# Altium schematic symbol library WE-ASI.SchLib: 13 symbols
Pins are listed as number, name and electrical type; pins without a type are passive.

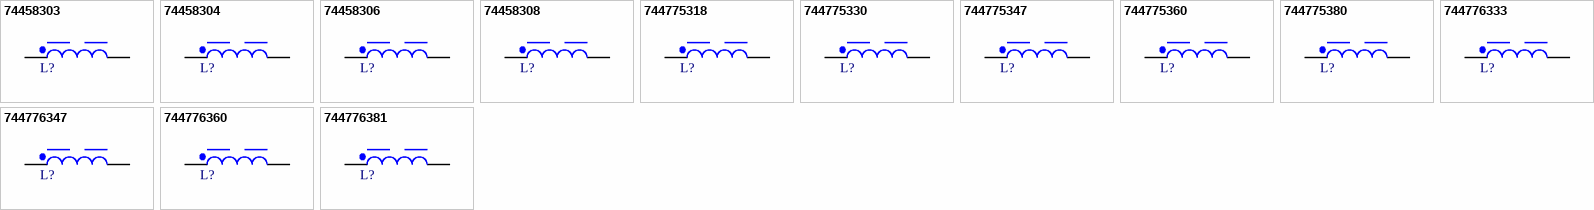
[diagram p0: symbols 74458303 to 744776381]

## 74458303
designator L?, comment 3mH, 0.5A  (value not drawn)
WE-ASI SMT Wire Wound Inductor, Actuator - Type L, 3mH, 0.5A, 3.5Ω; Manufacturer Part Number: 74458303; Manufacturer: Wurth Elektronik; Capacitance: 21pF; DC Resistance: 2.9Ω; Saturation Current: 1A; Self Resonant Frequency: 630kHz; Category: AS-Interface Inductors; Match Code: WE-ASI; ComponentLink1Description: Website Link; ComponentLink1URL: https://www.we-online.com/redexpert/article/74458303?ad; ComponentLink2Description: Datasheet Link; ComponentLink2URL: https://www.we-online.com/redexpert/spec/74458303?ad; Mount: Surface Mount; Operating Temperature Max: 125°C; Operating Temperature Min: -40°C; Packaging: Tape and Reel; Case/Size Code: Actuator - Type L; Length: 18.54mm; Width: 15.24mm; Height: 12mm; DC Resistance Max: 3.5Ω; Inductance: 3mH; Rated Current: 0.5A
footprint WE-ASI_Actuator - Type L
simulation model L_74458303_3m
pins: 1, 2

## 74458304
designator L?, comment 4.7mH, 0.4A  (value not drawn)
WE-ASI SMT Wire Wound Inductor, Actuator - Type L, 4.7mH, 0.4A, 4.8Ω; Manufacturer Part Number: 74458304; Manufacturer: Wurth Elektronik; Capacitance: 22pF; DC Resistance: 4Ω; Saturation Current: 0.9A; Self Resonant Frequency: 500kHz; Category: AS-Interface Inductors; Match Code: WE-ASI; ComponentLink1Description: Website Link; ComponentLink1URL: https://www.we-online.com/redexpert/article/74458304?ad; ComponentLink2Description: Datasheet Link; ComponentLink2URL: https://www.we-online.com/redexpert/spec/74458304?ad; Mount: Surface Mount; Operating Temperature Max: 125°C; Operating Temperature Min: -40°C; Packaging: Tape and Reel; Case/Size Code: Actuator - Type L; Length: 18.54mm; Width: 15.24mm; Height: 12mm; DC Resistance Max: 4.8Ω; Inductance: 4.7mH; Rated Current: 0.4A
footprint WE-ASI_Actuator - Type L
simulation model L_74458304_4.7m
pins: 1, 2

## 74458306
designator L?, comment 6mH, 0.4A  (value not drawn)
WE-ASI SMT Wire Wound Inductor, Actuator - Type L, 6mH, 0.4A, 6Ω; Manufacturer Part Number: 74458306; Manufacturer: Wurth Elektronik; Capacitance: 20pF; DC Resistance: 5.2Ω; Saturation Current: 0.7A; Self Resonant Frequency: 470kHz; Category: AS-Interface Inductors; Match Code: WE-ASI; ComponentLink1Description: Website Link; ComponentLink1URL: https://www.we-online.com/redexpert/article/74458306?ad; ComponentLink2Description: Datasheet Link; ComponentLink2URL: https://www.we-online.com/redexpert/spec/74458306?ad; Mount: Surface Mount; Operating Temperature Max: 125°C; Operating Temperature Min: -40°C; Packaging: Tape and Reel; Case/Size Code: Actuator - Type L; Length: 18.54mm; Width: 15.24mm; Height: 12mm; DC Resistance Max: 6Ω; Inductance: 6mH; Rated Current: 0.4A
footprint WE-ASI_Actuator - Type L
simulation model L_74458306_6m
pins: 1, 2

## 74458308
designator L?, comment 8mH, 0.35A  (value not drawn)
WE-ASI SMT Wire Wound Inductor, Actuator - Type L, 8mH, 0.35A, 8Ω; Manufacturer Part Number: 74458308; Manufacturer: Wurth Elektronik; Capacitance: 19pF; DC Resistance: 6.8Ω; Saturation Current: 0.6A; Self Resonant Frequency: 410kHz; Category: AS-Interface Inductors; Match Code: WE-ASI; ComponentLink1Description: Website Link; ComponentLink1URL: https://www.we-online.com/redexpert/article/74458308?ad; ComponentLink2Description: Datasheet Link; ComponentLink2URL: https://www.we-online.com/redexpert/spec/74458308?ad; Mount: Surface Mount; Operating Temperature Max: 125°C; Operating Temperature Min: -40°C; Packaging: Tape and Reel; Case/Size Code: Actuator - Type L; Length: 18.54mm; Width: 15.24mm; Height: 12mm; DC Resistance Max: 8Ω; Inductance: 8mH; Rated Current: 0.35A
footprint WE-ASI_Actuator - Type L
simulation model L_74458308_8m
pins: 1, 2

## 744775318
designator L?, comment 18mH, 0.08A  (value not drawn)
WE-ASI SMT Wire Wound Inductor, Sensor, 18mH, 0.08A, 72Ω; Manufacturer Part Number: 744775318; Manufacturer: Wurth Elektronik; Capacitance: 9pF; DC Resistance: 57.7Ω; Saturation Current: 0.05A; Self Resonant Frequency: 400kHz; Category: AS-Interface Inductors; Match Code: WE-ASI; ComponentLink1Description: Website Link; ComponentLink1URL: https://www.we-online.com/redexpert/article/744775318?ad; ComponentLink2Description: Datasheet Link; ComponentLink2URL: https://www.we-online.com/redexpert/spec/744775318?ad; Mount: Surface Mount; Operating Temperature Max: 125°C; Operating Temperature Min: -40°C; Packaging: Tape and Reel; Case/Size Code: Sensor; Length: 8mm; Width: 7mm; Height: 5mm; DC Resistance Max: 72Ω; Inductance: 18mH; Rated Current: 0.08A
footprint WE-ASI_Sensor
simulation model Sensor_744775318_18m
pins: 1, 2

## 744775330
designator L?, comment 3mH, 0.24A  (value not drawn)
WE-ASI SMT Wire Wound Inductor, Sensor, 3mH, 0.24A, 10Ω; Manufacturer Part Number: 744775330; Manufacturer: Wurth Elektronik; Capacitance: 10pF; DC Resistance: 8.2Ω; Saturation Current: 0.12A; Self Resonant Frequency: 900kHz; Category: AS-Interface Inductors; Match Code: WE-ASI; ComponentLink1Description: Website Link; ComponentLink1URL: https://www.we-online.com/redexpert/article/744775330?ad; ComponentLink2Description: Datasheet Link; ComponentLink2URL: https://www.we-online.com/redexpert/spec/744775330?ad; Mount: Surface Mount; Operating Temperature Max: 125°C; Operating Temperature Min: -40°C; Packaging: Tape and Reel; Case/Size Code: Sensor; Length: 8mm; Width: 7mm; Height: 5mm; DC Resistance Max: 10Ω; Inductance: 3mH; Rated Current: 0.24A
footprint WE-ASI_Sensor
simulation model Sensor_744775330_3m
pins: 1, 2

## 744775347
designator L?, comment 4.7mH, 0.2A  (value not drawn)
WE-ASI SMT Wire Wound Inductor, Sensor, 4.7mH, 0.2A, 13.8Ω; Manufacturer Part Number: 744775347; Manufacturer: Wurth Elektronik; Capacitance: 11pF; DC Resistance: 11.5Ω; Saturation Current: 0.1A; Self Resonant Frequency: 700kHz; Category: AS-Interface Inductors; Match Code: WE-ASI; ComponentLink1Description: Website Link; ComponentLink1URL: https://www.we-online.com/redexpert/article/744775347?ad; ComponentLink2Description: Datasheet Link; ComponentLink2URL: https://www.we-online.com/redexpert/spec/744775347?ad; Mount: Surface Mount; Operating Temperature Max: 125°C; Operating Temperature Min: -40°C; Packaging: Tape and Reel; Case/Size Code: Sensor; Length: 8mm; Width: 7mm; Height: 5mm; DC Resistance Max: 13.8Ω; Inductance: 4.7mH; Rated Current: 0.2A
footprint WE-ASI_Sensor
simulation model Sensor_744775347_4.7m
pins: 1, 2

## 744775360
designator L?, comment 6mH, 0.18A  (value not drawn)
WE-ASI SMT Wire Wound Inductor, Sensor, 6mH, 0.18A, 18Ω; Manufacturer Part Number: 744775360; Manufacturer: Wurth Elektronik; Capacitance: 12pF; DC Resistance: 16.7Ω; Saturation Current: 0.09A; Self Resonant Frequency: 600kHz; Category: AS-Interface Inductors; Match Code: WE-ASI; ComponentLink1Description: Website Link; ComponentLink1URL: https://www.we-online.com/redexpert/article/744775360?ad; ComponentLink2Description: Datasheet Link; ComponentLink2URL: https://www.we-online.com/redexpert/spec/744775360?ad; Mount: Surface Mount; Operating Temperature Max: 125°C; Operating Temperature Min: -40°C; Packaging: Tape and Reel; Case/Size Code: Sensor; Length: 8mm; Width: 7mm; Height: 5mm; DC Resistance Max: 18Ω; Inductance: 6mH; Rated Current: 0.18A
footprint WE-ASI_Sensor
simulation model Sensor_744775360_6m
pins: 1, 2

## 744775380
designator L?, comment 8mH, 0.14A  (value not drawn)
WE-ASI SMT Wire Wound Inductor, Sensor, 8mH, 0.14A, 25Ω; Manufacturer Part Number: 744775380; Manufacturer: Wurth Elektronik; Capacitance: 11pF; DC Resistance: 23.3Ω; Saturation Current: 0.09A; Self Resonant Frequency: 700kHz; Category: AS-Interface Inductors; Match Code: WE-ASI; ComponentLink1Description: Website Link; ComponentLink1URL: https://www.we-online.com/redexpert/article/744775380?ad; ComponentLink2Description: Datasheet Link; ComponentLink2URL: https://www.we-online.com/redexpert/spec/744775380?ad; Mount: Surface Mount; Operating Temperature Max: 125°C; Operating Temperature Min: -40°C; Packaging: Tape and Reel; Case/Size Code: Sensor; Length: 8mm; Width: 7mm; Height: 5mm; DC Resistance Max: 25Ω; Inductance: 8mH; Rated Current: 0.14A
footprint WE-ASI_Sensor
simulation model Sensor_744775380_8m
pins: 1, 2

## 744776333
designator L?, comment 3mH, 0.35A  (value not drawn)
WE-ASI SMT Wire Wound Inductor, Actuator - Type M, 3mH, 0.35A, 7Ω; Manufacturer Part Number: 744776333; Manufacturer: Wurth Elektronik; Capacitance: 10pF; DC Resistance: 5.6Ω; Saturation Current: 0.4A; Self Resonant Frequency: 900kHz; Category: AS-Interface Inductors; Match Code: WE-ASI; ComponentLink1Description: Website Link; ComponentLink1URL: https://www.we-online.com/redexpert/article/744776333?ad; ComponentLink2Description: Datasheet Link; ComponentLink2URL: https://www.we-online.com/redexpert/spec/744776333?ad; Mount: Surface Mount; Operating Temperature Max: 125°C; Operating Temperature Min: -40°C; Packaging: Tape and Reel; Case/Size Code: Actuator - Type M; Length: 10.2mm; Width: 9mm; Height: 6.5mm; DC Resistance Max: 7Ω; Inductance: 3mH; Rated Current: 0.35A
footprint WE-ASI_Actuator - Type M
simulation model M_744776333_3m
pins: 1, 2

## 744776347
designator L?, comment 4.7mH, 0.25A  (value not drawn)
WE-ASI SMT Wire Wound Inductor, Actuator - Type M, 4.7mH, 0.25A, 12Ω; Manufacturer Part Number: 744776347; Manufacturer: Wurth Elektronik; Capacitance: 13pF; DC Resistance: 11.5Ω; Saturation Current: 0.3A; Self Resonant Frequency: 650kHz; Category: AS-Interface Inductors; Match Code: WE-ASI; ComponentLink1Description: Website Link; ComponentLink1URL: https://www.we-online.com/redexpert/article/744776347?ad; ComponentLink2Description: Datasheet Link; ComponentLink2URL: https://www.we-online.com/redexpert/spec/744776347?ad; Mount: Surface Mount; Operating Temperature Max: 125°C; Operating Temperature Min: -40°C; Packaging: Tape and Reel; Case/Size Code: Actuator - Type M; Length: 10.2mm; Width: 9mm; Height: 6.5mm; DC Resistance Max: 12Ω; Inductance: 4.7mH; Rated Current: 0.25A
footprint WE-ASI_Actuator - Type M
simulation model M_744776347_4.7m
pins: 1, 2

## 744776360
designator L?, comment 6mH, 0.23A  (value not drawn)
WE-ASI SMT Wire Wound Inductor, Actuator - Type M, 6mH, 0.23A, 14Ω; Manufacturer Part Number: 744776360; Manufacturer: Wurth Elektronik; Capacitance: 13pF; Saturation Current: 0.27A; Self Resonant Frequency: 570kHz; Category: AS-Interface Inductors; Match Code: WE-ASI; ComponentLink1Description: Website Link; ComponentLink1URL: https://www.we-online.com/redexpert/article/744776360?ad; ComponentLink2Description: Datasheet Link; ComponentLink2URL: https://www.we-online.com/redexpert/spec/744776360?ad; Mount: Surface Mount; Operating Temperature Max: 125°C; Operating Temperature Min: -40°C; Packaging: Tape and Reel; Case/Size Code: Actuator - Type M; Length: 10.2mm; Width: 9mm; Height: 6.5mm; DC Resistance: 14Ω; DC Resistance Max: 14Ω; Inductance: 6mH; Rated Current: 0.23A
footprint WE-ASI_Actuator - Type M
simulation model M_744776360_6m
pins: 1, 2

## 744776381
designator L?, comment 8mH, 0.2A  (value not drawn)
WE-ASI SMT Wire Wound Inductor, Actuator - Type M, 8mH, 0.2A, 16Ω; Manufacturer Part Number: 744776381; Manufacturer: Wurth Elektronik; Capacitance: 13pF; DC Resistance: 15.4Ω; Self Resonant Frequency: 500kHz; Category: AS-Interface Inductors; Match Code: WE-ASI; ComponentLink1Description: Website Link; ComponentLink1URL: https://www.we-online.com/redexpert/article/744776381?ad; ComponentLink2Description: Datasheet Link; ComponentLink2URL: https://www.we-online.com/redexpert/spec/744776381?ad; Mount: Surface Mount; Operating Temperature Max: 125°C; Operating Temperature Min: -40°C; Packaging: Tape and Reel; Case/Size Code: Actuator - Type M; Length: 10.2mm; Width: 9mm; Height: 6.5mm; DC Resistance Max: 16Ω; Inductance: 8mH; Rated Current: 0.2A; Saturation Current: 0.2A
footprint WE-ASI_Actuator - Type M
simulation model M_744776381_8m
pins: 1, 2